# Altium schematic symbol library Global Library.SchLib: 93 symbols (part 2 of 2)
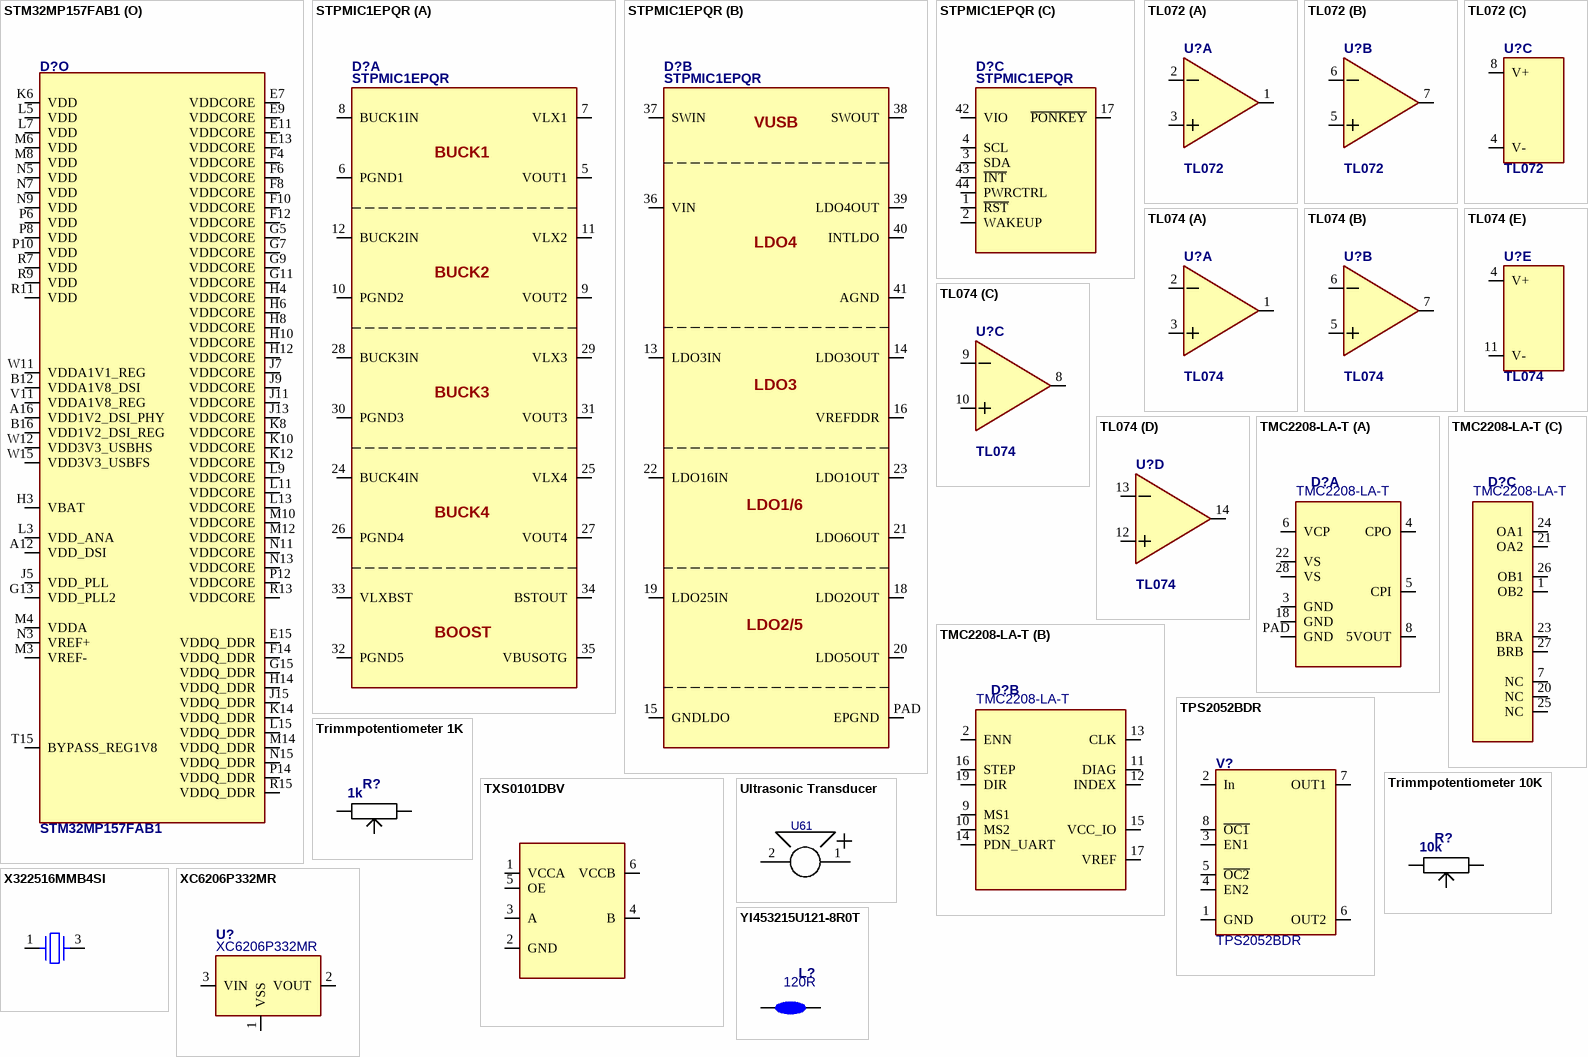
[diagram p7: symbols STM32MP157FAB1 to YI453215U121-8R0T]

## STPMIC1EPQR
designator D?
PMIC for STM32MP1 Microprocessors; Part_validated: Yes | No; GPV_Number: xxxx.xxxx; System: Connector; MNL_Number: xxxxxxxx; Value: STPMIC1EPQR; Footprint_validated: Yes | No; PartStatus: New | Draft | Release; ClassName: Surface_Assy | Testpoint | Through-Hole_Assy | NetTie | Symbol | Mechanical; Case/Package: 0201 | 0402 | 0603 | 0805 | 1206 | SO8 | SO16 |; Technology: SMT | THT | SMT-BTC; Manufacturer: *; Manufacturer Part Number: *
footprint QFN44_N_RF (QFN, 44-Leads, Body 5.00x6.00mm, Pitch 0.40mm, Thermal Pad 3.50x4.50mm, IPC Medium Density)
part A pins: 5 VOUT1, 6 PGND1, 7 VLX1, 8 BUCK1IN, 9 VOUT2, 10 PGND2, 11 VLX2, 12 BUCK2IN, 24 BUCK4IN, 25 VLX4, 26 PGND4, 27 VOUT4, 28 BUCK3IN, 29 VLX3, 30 PGND3, 31 VOUT3, 32 PGND5, 33 VLXBST, 34 BSTOUT, 35 VBUSOTG
part B pins: 13 LDO3IN, 14 LDO3OUT, 15 GNDLDO, 16 VREFDDR, 18 LDO2OUT, 19 LDO25IN, 20 LDO5OUT, 21 LDO6OUT, 22 LDO16IN, 23 LDO1OUT, 36 VIN, 37 SWIN, 38 SWOUT, 39 LDO4OUT, 40 INTLDO, 41 AGND, PAD EPGND
part C pins: 1 ~{RST}, 2 WAKEUP, 3 SDA, 4 SCL, 17 ~{PONKEY}, 42 VIO, 43 ~{INT}, 44 PWRCTRL
part A text: BUCK1; BUCK2; BUCK3; BUCK4; BOOST
part B text: VUSB; LDO4; LDO3; LDO1/6; LDO2/5

## TL072
designator U?
Dual Low-Noise JFET-Input General-Purpose Operational Amplifier, 7 to 36 V, 0 to 70 degC, 14-pin SOIC (D14), Green (RoHS & no Sb/Br); PartNumber: TL074CD; Manufacturer: Texas Instruments; Iq per channel(Max)(mA): 2.5; CMRR(Min)(dB): 70; Offset Drift(Typ)(uV/C): 18; Slew Rate(Typ)(V/us): 13; Rating: Military; Number of Channels: 4; Total Supply Voltage(Min)(+5V is 5, +/-5V is 10): 7; Sub Family: General Purpose Amplifier, High Supply Voltage Amplifier (>=30V); IIB(Max)(pA): 200; Total Supply Voltage(Max)(+5V is 5, +/-5V is 10): 36; Vio (25C)(Max)(mV): 10; GBW(Typ)(MHz): 3; ComponentLink1Description: Manufacturer URL; ComponentLink2Description: Datasheet; PackageDescription: 14-Pin Plastic Small Outline, Body 8.65 x 3.90 mm, Pitch 1.27 mm; Mounting Technology: Surface Mount; ComponentLink2URL: http://www.ti.com/lit/ds/symlink/tl074.pdf; Vn at 1kHz(Typ)(nV/rtHz): 18; Eco-Plan: Green (RoHS & no Sb/Br); ComponentLink1URL: http://www.ti.com/; PackageVersion: 4040047-5/M, 06/2011; ComponentLink3Description: Package Specification; DatasheetVersion: SLOS080J; Code_JEDEC: MS-012; PackageReference: D0014A; ComponentLink3URL: http://www.ti.com/lit/ml/mpds177g/mpds177g.pdf
footprint SOIC8_L_RF (SOIC, 8-Leads, Body 4.90x3.90mm, Pitch 1.27mm, IPC High Density)
footprint SOIC8_N_RF (SOIC, 8-Leads, Body 4.90x3.90mm, Pitch 1.27mm, IPC Medium Density)
part A pins: 1, 2, 3
part B pins: 5, 6, 7
part C pins: 4 V-, 8 V+

## TL074
designator U?
Quad Low-Noise JFET-Input General-Purpose Operational Amplifier, 7 to 36 V, 0 to 70 degC, 14-pin SOIC (D14), Green (RoHS & no Sb/Br); PartNumber: TL074CD; Manufacturer: Texas Instruments; Iq per channel(Max)(mA): 2.5; CMRR(Min)(dB): 70; Offset Drift(Typ)(uV/C): 18; Slew Rate(Typ)(V/us): 13; Rating: Military; Number of Channels: 4; Total Supply Voltage(Min)(+5V is 5, +/-5V is 10): 7; Sub Family: General Purpose Amplifier, High Supply Voltage Amplifier (>=30V); IIB(Max)(pA): 200; Total Supply Voltage(Max)(+5V is 5, +/-5V is 10): 36; Vio (25C)(Max)(mV): 10; GBW(Typ)(MHz): 3; ComponentLink1Description: Manufacturer URL; ComponentLink2Description: Datasheet; PackageDescription: 14-Pin Plastic Small Outline, Body 8.65 x 3.90 mm, Pitch 1.27 mm; Mounting Technology: Surface Mount; ComponentLink2URL: http://www.ti.com/lit/ds/symlink/tl074.pdf; Vn at 1kHz(Typ)(nV/rtHz): 18; Eco-Plan: Green (RoHS & no Sb/Br); ComponentLink1URL: http://www.ti.com/; PackageVersion: 4040047-5/M, 06/2011; ComponentLink3Description: Package Specification; DatasheetVersion: SLOS080J; Code_JEDEC: MS-012; PackageReference: D0014A; ComponentLink3URL: http://www.ti.com/lit/ml/mpds177g/mpds177g.pdf
footprint D0014A_N (SOIC, 14-Leads, Body 8.75x4mm, Pitch 1.27mm, IPC Medium Density)
part A pins: 1, 2, 3
part B pins: 5, 6, 7
part C pins: 8, 9, 10
part D pins: 12, 13, 14
part E pins: 4 V+, 11 V-

## TMC2208-LA-T
designator D?
IC DRIVER Stepper 1.4A; Part_validated: No; Manufacturer: Analog Devices; GPV_Number: xxxx.xxxx; MNL_Number: xxxxxxxx; Value: TMC2208-LA-T; Footprint_validated: No; PartStatus: New; System: -; ClassName: Surface_Assy; Case/Package: QFN28; Technology: SMT; Manufacturer Part Number: TMC2208-LA-T
footprint QFN28_N_RF (QFN, 28-Leads, Body 5.00x5.00mm, Pitch 0.50mm, Thermal Pad 3.10x3.10mm, IPC Medium Density)
part A pins: 3 GND, 4 CPO, 5 CPI, 6 VCP, 8 5VOUT, 18 GND, 22 VS, 28 VS, PAD GND
part B pins: 2 ENN, 9 MS1, 10 MS2, 11 DIAG, 12 INDEX, 13 CLK, 14 PDN_UART, 15 VCC_IO, 16 STEP, 17 VREF, 19 DIR
part C pins: 1 OB2, 7 NC, 20 NC, 21 OA2, 23 BRA, 24 OA1, 25 NC, 26 OB1, 27 BRB

## TPS2052BDR
designator V?
IC USB Power SW Dual 5.5V 0.75A to 1.25A SOIC-8; Part_validated: Yes; Manufacturer: Texas Instruments; GPV_Number: xxxx.xxxx; MNL_Number: xxxxxxxx; Value: TPS2052BDR; Footprint_validated: Yes; PartStatus: New; System: -; ClassName: Surface_Assy; Case/Package: SOIC-8; Technology: SMT; Manufacturer Part Number: TPS2052BDR; ComponentLink1URL: https://datasheet.ciiva.com/15108/getdatasheetpartid-534213-15108609.pdf?src-supplier=Verical; ComponentLink1Description: https://datasheet.ciiva.com/15108/getdatasheetpartid-534213-15108609.pdf?src-supplier=Verical; ComponentLink2URL: https://datasheet.ciiva.com/1963/tps2042b-1963605.pdf?src-supplier=Digi-Key; ComponentLink2Description: https://datasheet.ciiva.com/1963/tps2042b-1963605.pdf?src-supplier=Digi-Key; ComponentLink3URL: https://datasheet.ciiva.com/26166/tps2051b-26166261.pdf?src-supplier=Avnet+Europe; ComponentLink3Description: https://datasheet.ciiva.com/26166/tps2051b-26166261.pdf?src-supplier=Avnet+Europe; ComponentLink4URL: https://datasheet.ciiva.com/3234/tps2051b-3234903.pdf?src-supplier=Avnet; ComponentLink4Description: https://datasheet.ciiva.com/3234/tps2051b-3234903.pdf?src-supplier=Avnet; Supplier 1: Mouser; Supplier Part Number 1: 595-TPS2052BDR
footprint SOIC8_L_RF (SOIC, 8-Leads, Body 4.90x3.90mm, Pitch 1.27mm, IPC High Density)
footprint SOIC8_N_RF (SOIC, 8-Leads, Body 4.90x3.90mm, Pitch 1.27mm, IPC Medium Density)
pins: 1 GND, 2 In, 3 EN1, 4 EN2, 5 ~{OC2}, 6 OUT2, 7 OUT1, 8 ~{OC1}

## Trimmpotentiometer 1K
designator R?, comment 1k
Trimmpot von LCSC C118949; Part_validated: Yes | No; Manufacturer: Bochen; Manufacturer Part Number: 3296W-1-102; GPV_Number: xxxx.xxxx; System: Connector; MNL_Number: xxxxxxxx; Value: 1k; Footprint_validated: Yes | No; PartStatus: New | Draft | Release; ClassName: Surface_Assy | Testpoint | Through-Hole_Assy | NetTie | Symbol | Mechanical; Case/Package: 0201 | 0402 | 0603 | 0805 | 1206 | SO8 | SO16 |; Technology: SMT | THT | SMT-BTC
footprint Trimmpot
pins: 1, 2, 3

## Trimmpotentiometer 10K
designator R?, comment 10k
Trimmpot von LCSC; Part_validated: Yes | No; Manufacturer: Bochen; Manufacturer Part Number: 3296W-1-103; GPV_Number: xxxx.xxxx; System: Connector; MNL_Number: xxxxxxxx; Value: 10k; Footprint_validated: Yes | No; PartStatus: New | Draft | Release; ClassName: Surface_Assy | Testpoint | Through-Hole_Assy | NetTie | Symbol | Mechanical; Case/Package: 0201 | 0402 | 0603 | 0805 | 1206 | SO8 | SO16 |; Technology: SMT | THT | SMT-BTC
footprint Trimmpot
pins: 1, 2, 3

## TXS0101DBV
designator D?
LOGIC Level Shifter 1CH 1.65V-5.5V; Part_validated: No; Manufacturer: TI; GPV_Number: xxxx.xxxx; MNL_Number: xxxxxxxx; Value: TXS0101DBV; Footprint_validated: No; PartStatus: New; System: -; ClassName: Surface_Assy; Case/Package: SOT23-6; Technology: SMT; Manufacturer Part Number: TXS0101DBV
footprint SOT23-6_N_RF (SOT23, 6-Leads, Body 2.90x2.70mm, Pitch 0.95mm, IPC Medium Density)
pins: 1 VCCA, 2 GND, 3 A, 4 B, 5 OE, 6 VCCB

## Ultrasonic Transducer
designator U61  (value not drawn)
Contributor: lukas95B; spicePre: U; spiceSymbolName: Ultrasonic Transducer
footprint ULTRASONIC TRANSDUCER 40KHZ
pins: 1, 2

## X322516MMB4SI
designator G?, comment 16MHz
Crystal Oscillator 16MHz 10pF ±10ppm LCSC C112972; Part_validated: No; Manufacturer: Yangwing Tech; Manufacturer Part Number: X322516MMB4SI; GPV_Number: xxxx.xxxx; MNL_Number: xxxxxxxx; Value: 16MHz; Footprint_validated: No; PartStatus: New; System: -; ClassName: Surface_Assy; Case/Package: 2532; Technology: SMT
footprint G_3225_N_RF (Crystal Oscillator  2.5mm X 3.2mm)
pins: 1, 3

## XC6206P332MR
designator U?
IC REG LDO 3.3V 200mA; Part_validated: No; Manufacturer: Torex; GPV_Number: xxxx.xxxx; MNL_Number: xxxxxxxx; Value: XC6206P332MR; Footprint_validated: No; PartStatus: New; System: -; ClassName: Surface_Assy; Case/Package: SOT23; Technology: SMT; Manufacturer Part Number: XC6206P332MR
footprint SOT23_N_RF (SOT23, 3-Leads, Body 2.9x1.3mm, Pitch 0.95mm, Lead Span 2.4mm, IPC Medium Density)
pins: 1 VSS, 2 VOUT, 3 VIN

## YI453215U121-8R0T
designator L?, comment 120R
Ferrite Bead 120R 8A 1812 C2858475; Part_validated: No; Manufacturer: YJYCOIN; Manufacturer Part Number: YI453215U121-8R0T; GPV_Number: xxxx.xxxx; MNL_Number: xxxxxxxx; Value: 120R; Footprint_validated: No; PartStatus: New; System: -; ClassName: Surface_Assy; Case/Package: 1812; Technology: SMT
footprint L_1812_N_RF (Chip Inductor, 2-Leads, Body 4.50x3.20mm, IPC Medium Density)
pins: 1, 2